# EAGLE library part TPS79650 (library DMF-TI_DIR9001)
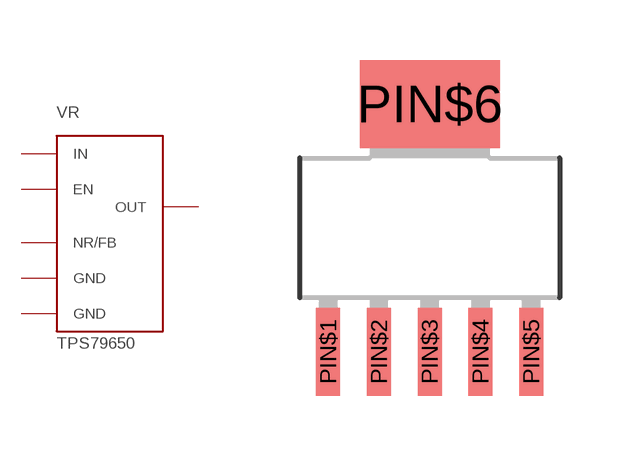
[diagram p2: symbol with the pads of TPS79650DCQ; footprint TPS79650DCQ]

Designator prefix VR

## TPS79650  [TPS79650DCQ]
PIN$1  EN
PIN$2  IN
PIN$3  GND
PIN$4  OUT
PIN$5  NR/FB
PIN$6  GND

## Footprint TPS79650DCQ (pad centres in mm)
TPS79650 Voltage Regulator
smd 0.6 x 2.2: PIN$1 -2.54,-3.1; PIN$2 -1.27,-3.1; PIN$3 0,-3.1; PIN$4 1.27,-3.1; PIN$5 2.54,-3.1
smd 3.5 x 2.2: PIN$6 0,3.1